# Altium schematic symbol library TL431AIDBZR.SchLib: 1 symbol
Pins are listed as number, name and electrical type; pins without a type are passive.

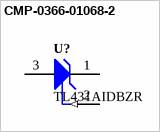
[diagram p0: symbol CMP-0366-01068-2]

## CMP-0366-01068-2
designator U?, comment TL431AIDBZR
Adjustable Precision Shunt Regulator, 34 ppm / degC, 100 mA, -40 to 85 degC, 3-pin SOT-23 (DBZ), Green (RoHS & no Sb/Br); Manufacturer: Texas Instruments; Rating: Catalog; Iout/Iz(Max)(mA): 100; VO Adj(Min)(V): 2.495; VO Adj(Max)(V): 36; SubFamily: Shunt Voltage Reference; Temp Coeff(Max)(ppm/ degree C): 92; Initial Accuracy @ 25/deg C(%): 1; Min Iz for Regulation(uA): 600; Temp Coeff(Typ)(ppm/ degree C): 34; DatasheetVersion: SLVS543M; PackageDescription: 3-Pin Plastic Small Outline, Body 2.92 x 1.3 mm, Pitch 0.95 mm; ComponentLink3URL: http://www.ti.com/litv/pdf/mpds108a; ComponentLink2Description: Datasheet; ComponentLink3Description: Package Specification; PackageVersion: 4203227/B; ComponentLink1URL: http://www.ti.com/; Mounting Technology: Surface Mount; ComponentLink2URL: http://www.ti.com/general/docs/lit/getliterature.tsp?genericPartNumber=TL431A&fileType=pdf; PackageReference: DBZ0003A; Eco-Plan: Green (RoHS & no Sb/Br); PartNumber: TL431AIDBZR; ComponentLink1Description: Manufacturer URL; Code_JEDEC: TO-236
footprint DBZ0003A_L (SOT23, 3-Leads, Body 3.04x1.4mm, Pitch 0.95mm, IPC High Density)
footprint DBZ0003A_N (SOT23, 3-Leads, Body 3.04x1.4mm, Pitch 0.95mm, IPC Medium Density)
footprint DBZ0003A_M (SOT23, 3-Leads, Body 3.04x1.4mm, Pitch 0.95mm, IPC Low Density)
pins: 1 CATHODE, 2 REF (in), 3 ANODE